# Altium schematic symbol library motor.SchLib: 1 symbol
Pins are listed as number, name and electrical type; pins without a type are passive.

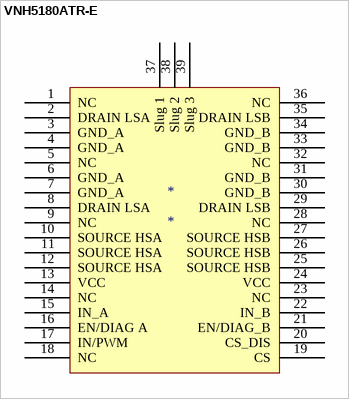
[diagram p0: symbol VNH5180ATR-E]

## VNH5180ATR-E
designator *
IC MOTOR DRIVER PAR 36POWERSSO; Supplier 1: Digi-Key; Supplier Part Number 1: 497-13075-1-ND
footprint VNH5180A-E (SSOP, 36-Leads, Body 10.30x7.50mm, Pitch 0.50mm, Thermal Pad 7.40x5.20mm, IPC Medium Density)
pins: 1 NC, 2 DRAIN LSA, 3 GND_A, 4 GND_A, 5 NC, 6 GND_A, 7 GND_A, 8 DRAIN LSA, 9 NC, 10 SOURCE HSA, 11 SOURCE HSA, 12 SOURCE HSA, 13 VCC, 14 NC, 15 IN_A, 16 EN/DIAG A, 17 IN/PWM, 18 NC, 19 CS, 20 CS_DIS, 21 EN/DIAG_B, 22 IN_B, 23 NC, 24 VCC, 25 SOURCE HSB, 26 SOURCE HSB, 27 SOURCE HSB, 28 NC, 29 DRAIN LSB, 30 GND_B, 31 GND_B, 32 NC, 33 GND_B, 34 GND_B, 35 DRAIN LSB, 36 NC, 37 Slug 1, 38 Slug 2, 39 Slug 3